# Altium footprint library SOT95P280X145-6N.PcbLib: 1 footprints
Each footprint in its own frame and in the unit in brackets; x right, y up, seen from the top. Pads: shape width x height; smd on the part's side, far side on the other; paste and mask are expansions set on the pad; w line width, h text height; cw(c..) or ccw(c..) is an arc to the next point about the centre after c.
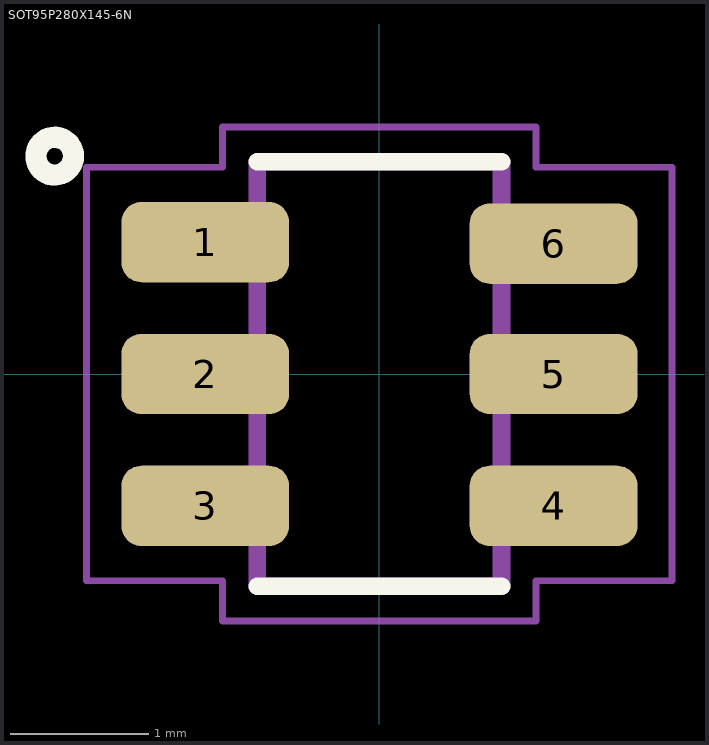
[diagram p0: the footprint, top view; thin cyan lines are the x and y axes]

## SOT95P280X145-6N [mm]
pads (6):
  rrect50% 1.21x0.58 smd: 1(-1.255,0.95) 2(-1.255,0) 3(-1.255,-0.95) 4(1.255,-0.95) 5(1.255,0) 6(1.255,0.94)
Top Overlay:
  circle w0.152: c-2.34,1.57 r0.136
  lines w0.127: -0.88,-1.53 0.88,-1.53 ; -0.88,1.53 0.88,1.53
Mechanical 13:
  lines w0: -0.88,-1.53 -0.864,-1.194 -0.864,-0.254 -0.88,-1.53 ; -0.88,1.53 -0.864,1.194 -0.864,1.524 -0.88,1.53 ; 0.864,-1.194 0.864,-0.711 0.88,-1.53 0.864,-1.194 ; 0.864,0.711 0.864,1.524 0.88,1.53 0.864,0.711
  lines w0.127: -0.88,-1.53 -0.88,1.53 0.88,1.53 0.88,-1.53 -0.88,-1.53
Mechanical 15:
  lines w0.05: -2.11,-1.49 -2.11,1.49 -1.13,1.49 -1.13,1.78 1.13,1.78 1.13,1.49 2.11,1.49 2.11,-1.49 1.13,-1.49 1.13,-1.78 -1.13,-1.78 -1.13,-1.49 -2.11,-1.49
3D body "WE-TVS_Standard_SOT23-6L_STD.stp": height 1.11, standoff -0.05, extent -1.4,-1.45 1.4,1.45